# Altium schematic symbol library 10129381-906003BLF.SchLib: 1 symbol
Pins are listed as number, name and electrical type; pins without a type are passive.

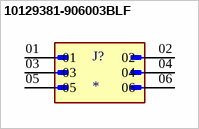
[diagram p0: symbol 10129381-906003BLF]

## 10129381-906003BLF
designator J?
MF: {'manufacturer': u'Amphenol ICC (FCI)'}; MP: 10129381-906003BLF; Package: None; Price: None; Value: *; Availability: Unavailable
footprint AMPHENOL_10129381-906003BLF
pins: 01, 02, 03, 04, 05, 06